# Altium schematic symbol library 模拟开关.SchLib: 2 symbols
Pins are listed as number, name and electrical type; pins without a type are passive.

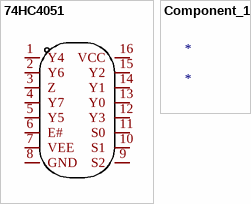
[diagram p0: symbols 74HC4051 to Component_1]

## 74HC4051
designator U??  (value not drawn)
Manufacturer: I-CORE(中微爱芯); Add into BOM: yes; Name: 74HC4051; Symbol: 74HC4051; Device: 74HC4051; LCSC Part Name: 8路模拟,多路复用器/解复用器; Supplier Part: C2943297; Manufacturer Part: 74HC4051; Supplier Footprint: SOP-16; JLCPCB Part Class: Extended Part; Datasheet: https://atta.szlcsc.com/upload/public/pdf/source/20220510/C32FF90C2449EAD226E57ADFBC7ACACB.pdf; Supplier: LCSC; Convert to PCB: yes
footprint SOP-16_L9.9-W3.9-P1.27-LS6.0-BL
3D model SOP-16_L9.9-W3.9-P1.27-LS6.0-BL
pins: 1 Y4, 2 Y6, 3 Z, 4 Y7, 5 Y5, 6 E#, 7 VEE, 8 GND, 9 S2, 10 S1, 11 S0, 12 Y3, 13 Y0, 14 Y1, 15 Y2, 16 VCC

## Component_1
designator *